# Altium schematic symbol library ICs_ADCs.SchLib: 2 symbols
Pins are listed as number, name and electrical type; pins without a type are passive.

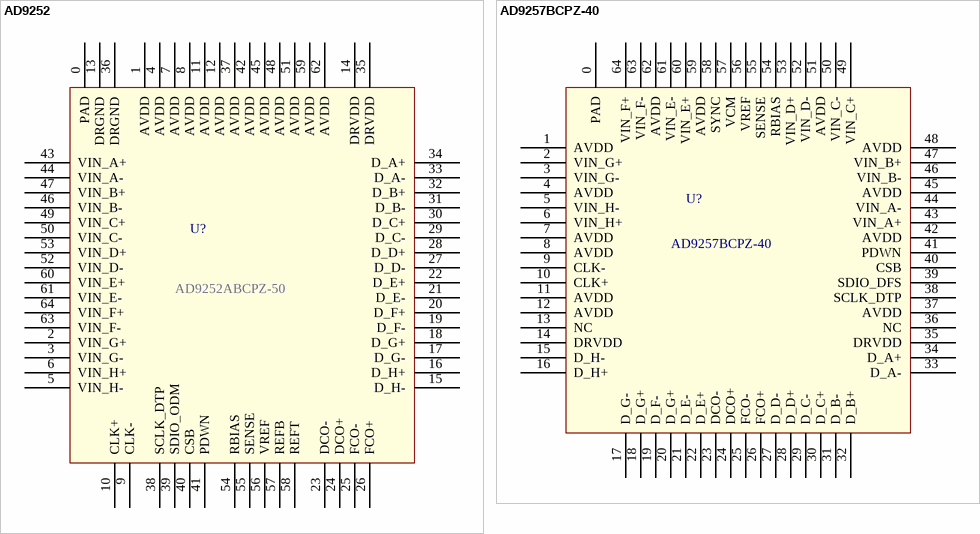
[diagram p0: symbols AD9252 to AD9257BCPZ-40]

## AD9252
designator U?  Manufacturer Part Number: AD9252ABCPZ-50  (hidden comment: AD9252)
IC ADC OCTAL 14BIT 64LFCSP; Manufacturer: Analog Devices Inc; Description: IC ADC 14BIT SRL 50MSPS 64LFCSP; Number of Bits: 14; Sampling Rate (Per Second): 50M; Data Interface: Serial, SPI™; Number of Converters: 8; Voltage Supply Source: Analog and Digital; Number of Inputs and Type: 16 Single-Ended, Unipolar; 8 Differential, Unipolar; Supplier 1: Digi-Key; RoHS: RoHS Compliant; Category: Integrated Circuits (ICs); Stock 1: 21; Pricing 1: 1=80.51, 10=75.479, 100=67.9307, 250=67.092 (USD); Packaging: Tray; Operating Temperature: -40°C ~ 85°C; Mounting Type: Surface Mount; Package / Case: 64-VFQFN Exposed Pad, CSP; Supplier Device Package: 64-LFCSP-VQ (9x9); ComponentLink1URL: http://www.analog.com/static/imported-files/data_sheets/AD9252.pdf; ComponentLink1Description: http://www.analog.com/static/imported-files/data_sheets/AD9252.pdf; Supplier Part Number 1: AD9252ABCPZ-50-ND
footprint LFCSP_64 (TSQFP, 64-Leads, Body 9.0x9.0mm (max), Pitch 0.50mm, IPC Medium Density)
pins: 0 PAD, 1 AVDD, 2 VIN_G+, 3 VIN_G-, 4 AVDD, 5 VIN_H-, 6 VIN_H+, 7 AVDD, 8 AVDD, 9 CLK-, 10 CLK+, 11 AVDD, 12 AVDD, 13 DRGND, 14 DRVDD, 15 D_H-, 16 D_H+, 17 D_G-, 18 D_G+, 19 D_F-, 20 D_F+, 21 D_E-, 22 D_E+, 23 DCO-, 24 DCO+, 25 FCO-, 26 FCO+, 27 D_D-, 28 D_D+, 29 D_C-, 30 D_C+, 31 D_B-, 32 D_B+, 33 D_A-, 34 D_A+, 35 DRVDD, 36 DRGND, 37 AVDD, 38 SCLK_DTP, 39 SDIO_ODM, 40 CSB, 41 PDWN, 42 AVDD, 43 VIN_A+, 44 VIN_A-, 45 AVDD, 46 VIN_B-, 47 VIN_B+, 48 AVDD, 49 VIN_C+, 50 VIN_C-, 51 AVDD, 52 VIN_D-, 53 VIN_D+, 54 RBIAS, 55 SENSE, 56 VREF, 57 REFB, 58 REFT, 59 AVDD, 60 VIN_E+, 61 VIN_E-, 62 AVDD, 63 VIN_F-, 64 VIN_F+

## AD9257BCPZ-40
designator U?
IC ADC OCTAL 14BIT 64LFCSP; Manufacturer: Analog Devices Inc; Number of Bits: 14; Sampling Rate (Per Second): 40M; Data Interface: Serial, SPI™; Number of Converters: 8; Voltage Supply Source: Analog and Digital; Number of Inputs and Type: 8 Differential; Supplier 1: Digi-Key; Manufacturer Part Number: AD9257BCPZ-40; RoHS: RoHS Compliant; Category: Integrated Circuits (ICs); Stock 1: 37; Pricing 1: 1=70.92, 10=66.625, 100=60.1776, 250=57.312 (USD); Packaging: Tray; Operating Temperature: -40°C ~ 85°C; Mounting Type: Surface Mount; Package / Case: 64-VFQFN Exposed Pad, CSP; Supplier Device Package: 64-LFCSP-VQ (9x9); ComponentLink1URL: http://www.analog.com/static/imported-files/data_sheets/AD9257.pdf; ComponentLink1Description: http://www.analog.com/static/imported-files/data_sheets/AD9257.pdf; Supplier Part Number 1: AD9257BCPZ-40-ND
footprint LFCSP_64 (TSQFP, 64-Leads, Body 9.0x9.0mm (max), Pitch 0.50mm, IPC Medium Density)
pins: 0 PAD, 1 AVDD, 2 VIN_G+, 3 VIN_G-, 4 AVDD, 5 VIN_H-, 6 VIN_H+, 7 AVDD, 8 AVDD, 9 CLK-, 10 CLK+, 11 AVDD, 12 AVDD, 13 NC, 14 DRVDD, 15 D_H-, 16 D_H+, 17 D_G-, 18 D_G+, 19 D_F-, 20 D_G+, 21 D_E-, 22 D_E+, 23 DCO-, 24 DCO+, 25 FCO-, 26 FCO+, 27 D_D-, 28 D_D+, 29 D_C-, 30 D_C+, 31 D_B-, 32 D_B+, 33 D_A-, 34 D_A+, 35 DRVDD, 36 NC, 37 AVDD, 38 SCLK_DTP, 39 SDIO_DFS, 40 CSB, 41 PDWN, 42 AVDD, 43 VIN_A+, 44 VIN_A-, 45 AVDD, 46 VIN_B-, 47 VIN_B+, 48 AVDD, 49 VIN_C+, 50 VIN_C-, 51 AVDD, 52 VIN_D-, 53 VIN_D+, 54 RBIAS, 55 SENSE, 56 VREF, 57 VCM, 58 SYNC, 59 AVDD, 60 VIN_E+, 61 VIN_E-, 62 AVDD, 63 VIN_F-, 64 VIN_F+